# Altium schematic symbol library LM3480IM3-3.3-NOPB.Schlib: 1 symbol
Pins are listed as number, name and electrical type; pins without a type are passive.

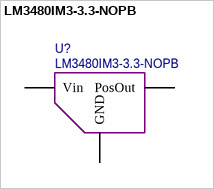
[diagram p0: symbol LM3480IM3-3.3-NOPB]

## LM3480IM3-3.3-NOPB
designator U?
pins: 1 PosOut, 2 Vin, 3 GND